# Altium schematic symbol library IC_MS5637-02BA03.SchLib: 1 symbol
Pins are listed as number, name and electrical type; pins without a type are passive.

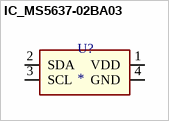
[diagram p0: symbol IC_MS5637-02BA03]

## IC_MS5637-02BA03
designator U?
pins: 1 VDD, 2 SDA, 3 SCL, 4 GND